# EAGLE library part ATMEGA328P-PU (library neoplixel_board)
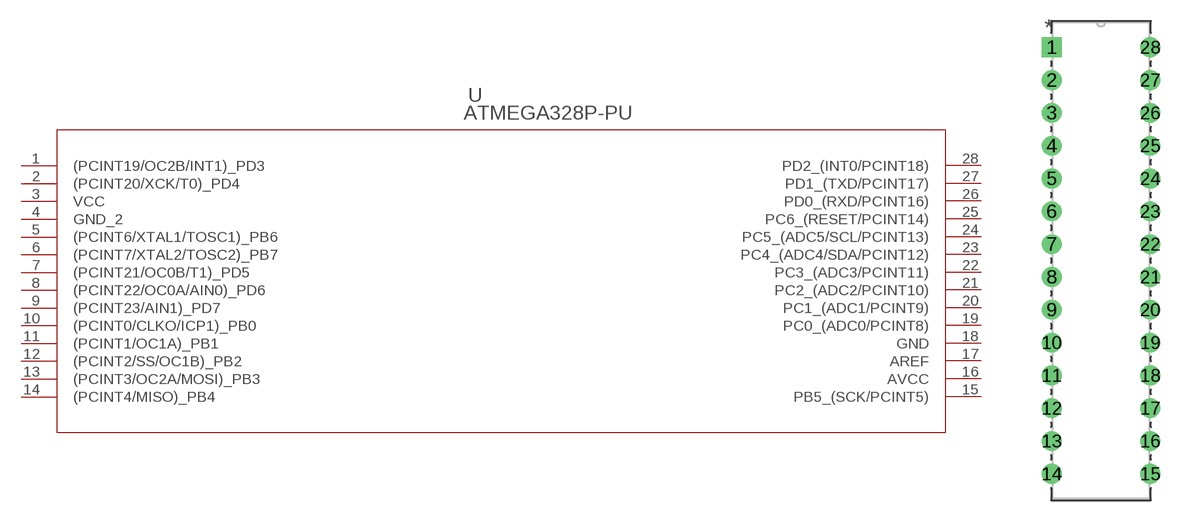
[diagram p0: symbol with the pads of 28P3; footprint 28P3]

Designator prefix U

## ATMEGA328P-PU (MANUFACTURER_PART_NUMBER: ATMEGA328PPU; VENDOR: Atmel)  [28P3]
1  (PCINT19/OC2B/INT1)_PD3
2  (PCINT20/XCK/T0)_PD4
3  VCC  pwr
4  GND_2  pwr
5  (PCINT6/XTAL1/TOSC1)_PB6
6  (PCINT7/XTAL2/TOSC2)_PB7
7  (PCINT21/OC0B/T1)_PD5
8  (PCINT22/OC0A/AIN0)_PD6
9  (PCINT23/AIN1)_PD7
10  (PCINT0/CLKO/ICP1)_PB0
11  (PCINT1/OC1A)_PB1
12  (PCINT2/SS/OC1B)_PB2
13  (PCINT3/OC2A/MOSI)_PB3
14  (PCINT4/MISO)_PB4
15  PB5_(SCK/PCINT5)
16  AVCC  pwr
17  AREF  pas
18  GND  pwr
19  PC0_(ADC0/PCINT8)
20  PC1_(ADC1/PCINT9)
21  PC2_(ADC2/PCINT10)
22  PC3_(ADC3/PCINT11)
23  PC4_(ADC4/SDA/PCINT12)
24  PC5_(ADC5/SCL/PCINT13)
25  PC6_(RESET/PCINT14)
26  PD0_(RXD/PCINT16)
27  PD1_(TXD/PCINT17)
28  PD2_(INT0/PCINT18)

## Footprint 28P3 (pad centres in mm)
drill 0.813 pad 1.524 square: 1 -7.62,33.02
drill 0.813 pad 1.524: 2 -7.62,30.48; 3 -7.62,27.94; 4 -7.62,25.4; 5 -7.62,22.86; 6 -7.62,20.32; 7 -7.62,17.78; 8 -7.62,15.24; 9 -7.62,12.7; 10 -7.62,10.16; 11 -7.62,7.62; 12 -7.62,5.08; 13 -7.62,2.54; 14 -7.62,0; 15 0,0; 16 0,2.54; 17 0,5.08; 18 0,7.62; 19 0,10.16; 20 0,12.7; 21 0,15.24; 22 0,17.78; 23 0,20.32; 24 0,22.86; 25 0,25.4; 26 0,27.94; 27 0,30.48; 28 0,33.02